# EAGLE library part BMD-340-A-R (library SamacSys_Parts)
Bluetooth Modules (802.15.1) BMD-340-A-R with nRF52840 processor Source: Datasheet <https://componentsearchengine.com/Datasheets/1/BMD-340-A-R.pdf>
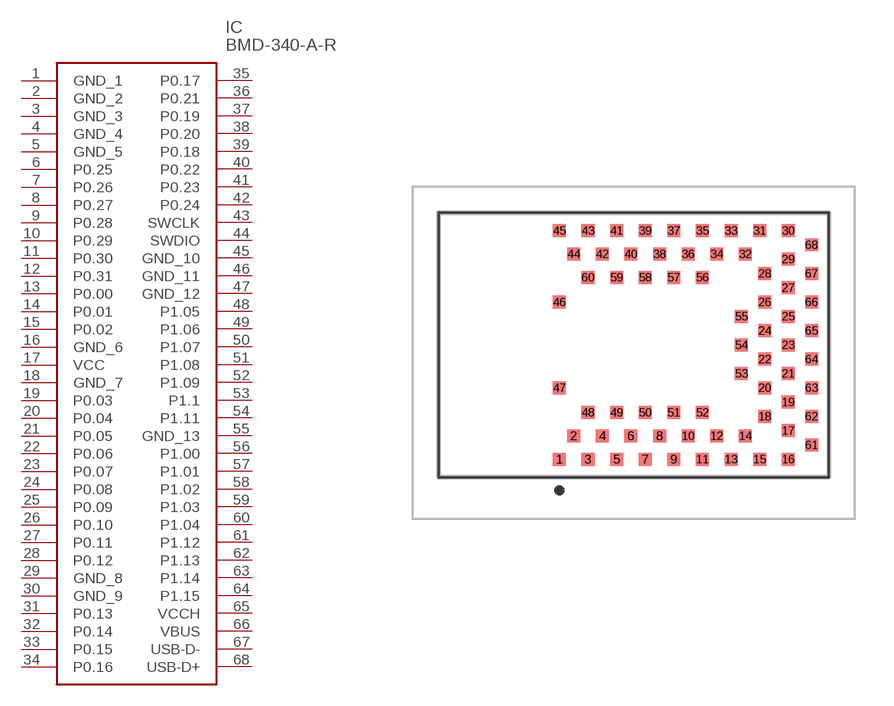
[diagram p0: symbol with the pads of BMD340AR; footprint BMD340AR]

Designator prefix IC

## BMD-340-A-R (DESCRIPTION: Bluetooth Modules (802.15.1) BMD-340-A-R with nRF52840 processor; HEIGHT: 4mm; MANUFACTURER_NAME: Rigado; MANUFACTURER_PART_NUMBER: BMD-340-A-R; MOUSER_PART_NUMBER: 377-BMD-340-A-R)  [BMD340AR]
1  GND_1
2  GND_2
3  GND_3
4  GND_4
5  GND_5
6  P0.25
7  P0.26
8  P0.27
9  P0.28
10  P0.29
11  P0.30
12  P0.31
13  P0.00
14  P0.01
15  P0.02
16  GND_6
17  VCC
18  GND_7
19  P0.03
20  P0.04
21  P0.05
22  P0.06
23  P0.07
24  P0.08
25  P0.09
26  P0.10
27  P0.11
28  P0.12
29  GND_8
30  GND_9
31  P0.13
32  P0.14
33  P0.15
34  P0.16
35  P0.17
36  P0.21
37  P0.19
38  P0.20
39  P0.18
40  P0.22
41  P0.23
42  P0.24
43  SWCLK
44  SWDIO
45  GND_10
46  GND_11
47  GND_12
48  P1.05
49  P1.06
50  P1.07
51  P1.08
52  P1.09
53  P1.1
54  P1.11
55  GND_13
56  P1.00
57  P1.01
58  P1.02
59  P1.03
60  P1.04
61  P1.12
62  P1.13
63  P1.14
64  P1.15
65  VCCH
66  VBUS
67  USB-D-
68  USB-D+

## Footprint BMD340AR (pad centres in mm)
BMD-340-A-R
smd 0.5 x 0.5: 1 -8.8,-4.4; 2 -8.25,-3.5; 3 -7.7,-4.4; 4 -7.15,-3.5; 5 -6.6,-4.4; 6 -6.05,-3.5; 7 -5.5,-4.4; 8 -4.95,-3.5; 9 -4.4,-4.4; 10 -3.85,-3.5; 11 -3.3,-4.4; 12 -2.75,-3.5; 13 -2.2,-4.4; 14 -1.65,-3.5; 15 -1.1,-4.4; 16 0,-4.4; 17 0,-3.3; 18 -0.9,-2.75; 19 0,-2.2; 20 -0.9,-1.65; 21 0,-1.1; 22 -0.9,-0.55; 23 0,0; 24 -0.9,0.55; 25 0,1.1; 26 -0.9,1.65; 27 0,2.2; 28 -0.9,2.75; 29 0,3.3; 30 0,4.4; 31 -1.1,4.4; 32 -1.65,3.5; 33 -2.2,4.4; 34 -2.75,3.5; 35 -3.3,4.4; 36 -3.85,3.5; 37 -4.4,4.4; 38 -4.95,3.5; 39 -5.5,4.4; 40 -6.05,3.5; 41 -6.6,4.4; 42 -7.15,3.5; 43 -7.7,4.4; 44 -8.25,3.5; 45 -8.8,4.4; 46 -8.8,1.65; 47 -8.8,-1.65; 48 -7.7,-2.6; 49 -6.6,-2.6; 50 -5.5,-2.6; 51 -4.4,-2.6; 52 -3.3,-2.6; 53 -1.8,-1.1; 54 -1.8,0; 55 -1.8,1.1; 56 -3.3,2.6; 57 -4.4,2.6; 58 -5.5,2.6; 59 -6.6,2.6; 60 -7.7,2.6; 61 0.9,-3.85; 62 0.9,-2.75; 63 0.9,-1.65; 64 0.9,-0.55; 65 0.9,0.55; 66 0.9,1.65; 67 0.9,2.75; 68 0.9,3.85